# Altium footprint library WURTH-693043020611.PcbLib: 1 footprints
Each footprint in its own frame and in the unit in brackets; x right, y up, seen from the top. Pads: shape width x height; smd on the part's side, far side on the other; paste and mask are expansions set on the pad; w line width, h text height; cw(c..) or ccw(c..) is an arc to the next point about the centre after c.
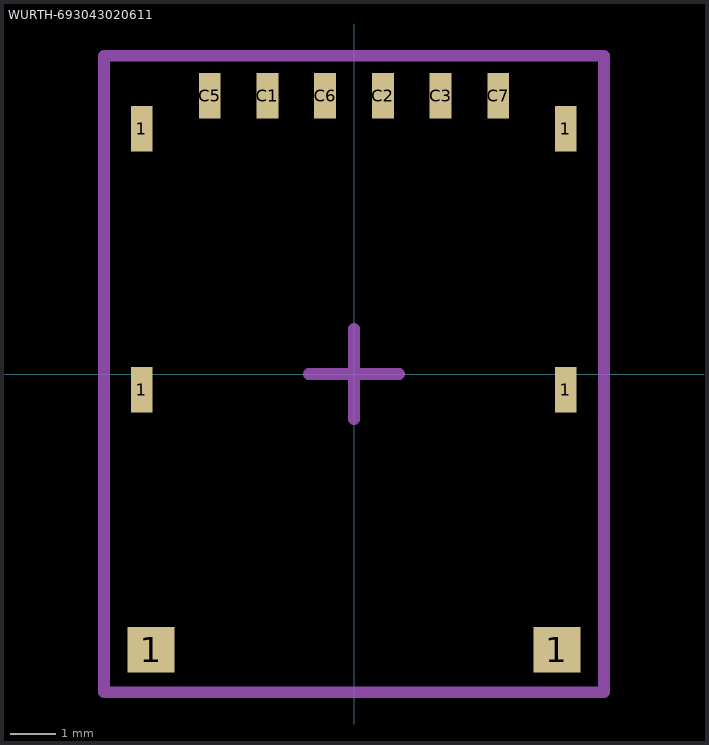
[diagram p0: the footprint, top view; thin cyan lines are the x and y axes]

## WURTH-693043020611 [mm] "WE NANO SIM"
pads (12):
  rect 0.48x1 smd: 1(-4.67,-0.35) 1(-4.67,5.4) 1(4.66,-0.35) 1(4.66,5.4) C1(-1.905,6.12) C2(0.635,6.12) C3(1.905,6.12) C5(-3.175,6.12) C6(-0.635,6.12) C7(3.175,6.12)
  rect 1.03x1 smd: 1(-4.465,-6.07) 1(4.465,-6.07)
Mechanical 15:
  lines w0.254: -1,0 1,0 ; 0,-1 0,1 ; -5.5,-7 -5.5,7 5.5,7 5.5,-7 -5.5,-7
3D body "693043020611.stp": height 1.2, standoff -0.01, extent -4.75,-6.3 4.75,6.2